# Altium footprint library STM32F407ZET6.PcbLib: 1 footprints
Each footprint in its own frame and in the unit in brackets; x right, y up, seen from the top. Pads: shape width x height; smd on the part's side, far side on the other; paste and mask are expansions set on the pad; w line width, h text height; cw(c..) or ccw(c..) is an arc to the next point about the centre after c.
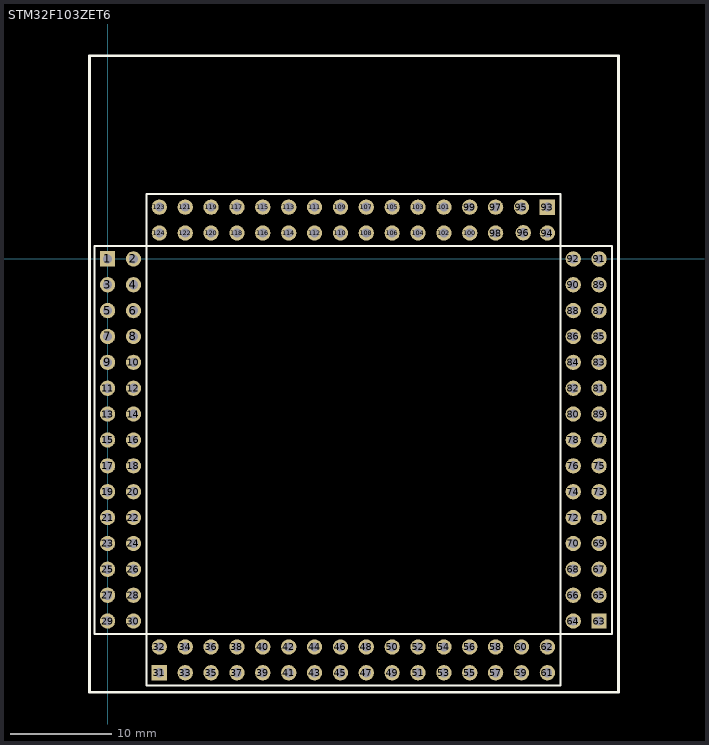
[diagram p0: the footprint, top view; thin cyan lines are the x and y axes]

## STM32F103ZET6 [mm]
pads (124):
  rect 1.5x1.5 hole 0.9: 1(0,0) 31(5.08,-40.64) 63(48.26,-35.56) 93(43.18,5.08)
  round 1.5 hole 0.9: 2(2.54,0) 3(0,-2.54) 4(2.54,-2.54) 5(0,-5.08) 6(2.54,-5.08) 7(0,-7.62) 8(2.54,-7.62) 9(0,-10.16) 10(2.54,-10.16) 11(0,-12.7) 12(2.54,-12.7) 13(0,-15.24) 14(2.54,-15.24) 15(0,-17.78) 16(2.54,-17.78) 17(0,-20.32) 18(2.54,-20.32) 19(0,-22.86) 20(2.54,-22.86) 21(0,-25.4) 22(2.54,-25.4) 23(0,-27.94) 24(2.54,-27.94) 25(0,-30.48) 26(2.54,-30.48) 27(0,-33.02) 28(2.54,-33.02) 29(0,-35.56) 30(2.54,-35.56) 32(5.08,-38.1) 33(7.62,-40.64) 34(7.62,-38.1) 35(10.16,-40.64) 36(10.16,-38.1) 37(12.7,-40.64) 38(12.7,-38.1) 39(15.24,-40.64) 40(15.24,-38.1) 41(17.78,-40.64) 42(17.78,-38.1) 43(20.32,-40.64) 44(20.32,-38.1) 45(22.86,-40.64) 46(22.86,-38.1) 47(25.4,-40.64) 48(25.4,-38.1) 49(27.94,-40.64) 50(27.94,-38.1) 51(30.48,-40.64) 52(30.48,-38.1) 53(33.02,-40.64) 54(33.02,-38.1) 55(35.56,-40.64) 56(35.56,-38.1) 57(38.1,-40.64) 58(38.1,-38.1) 59(40.64,-40.64) 60(40.64,-38.1) 61(43.18,-40.64) 62(43.18,-38.1) 64(45.72,-35.56) 65(48.26,-33.02) 66(45.72,-33.02) 67(48.26,-30.48) 68(45.72,-30.48) 69(48.26,-27.94) 70(45.72,-27.94) 71(48.26,-25.4) 72(45.72,-25.4) 73(48.26,-22.86) 74(45.72,-22.86) 75(48.26,-20.32) 76(45.72,-20.32) 77(48.26,-17.78) 78(45.72,-17.78) 80(45.72,-15.24) 81(48.26,-12.7) 82(45.72,-12.7) 83(48.26,-10.16) 84(45.72,-10.16) 85(48.26,-7.62) 86(45.72,-7.62) 87(48.26,-5.08) 88(45.72,-5.08) 89(48.26,-15.24) 89(48.26,-2.54) 90(45.72,-2.54) 91(48.26,0) 92(45.72,0) 94(43.18,2.54) 95(40.64,5.08) 96(40.818,2.565) 97(38.1,5.08) 98(38.1,2.54) 99(35.56,5.08) 100(35.56,2.54) 101(33.02,5.08) 102(33.02,2.54) 103(30.48,5.08) 104(30.48,2.54) 105(27.94,5.08) 106(27.94,2.54) 107(25.4,5.08) 108(25.4,2.54) 109(22.86,5.08) 110(22.86,2.54) 111(20.32,5.08) 112(20.32,2.54) 113(17.78,5.08) 114(17.78,2.54) 115(15.24,5.08) 116(15.24,2.54) 117(12.7,5.08) 118(12.7,2.54) 119(10.16,5.08) 120(10.16,2.54) 121(7.62,5.08) 122(7.62,2.54) 123(5.08,5.08) 124(5.08,2.54)
Top Overlay:
  lines w0.2: 3.81,-36.83 -1.27,-36.83 -1.27,1.27 3.81,1.27 ; 3.81,-36.83 3.81,1.27 ; 3.81,-36.83 3.81,-41.91 44.45,-41.91 44.45,-36.83 ; 3.81,-36.83 44.45,-36.83 ; 3.81,1.27 3.81,6.35 44.45,6.35 44.45,1.27 ; 3.81,1.27 44.45,1.27 ; 44.45,-36.83 49.53,-36.83 49.53,1.27 44.45,1.27 ; 44.45,-36.83 44.45,1.27
  lines w0.254: -1.778,-2.54 -1.778,19.939 50.165,19.939 50.165,-42.545 -1.778,-42.545 -1.778,-2.286